# Altium integrated library TI_Logic_Little_Logic.IntLib: 1164 symbols (part 32 of 35)
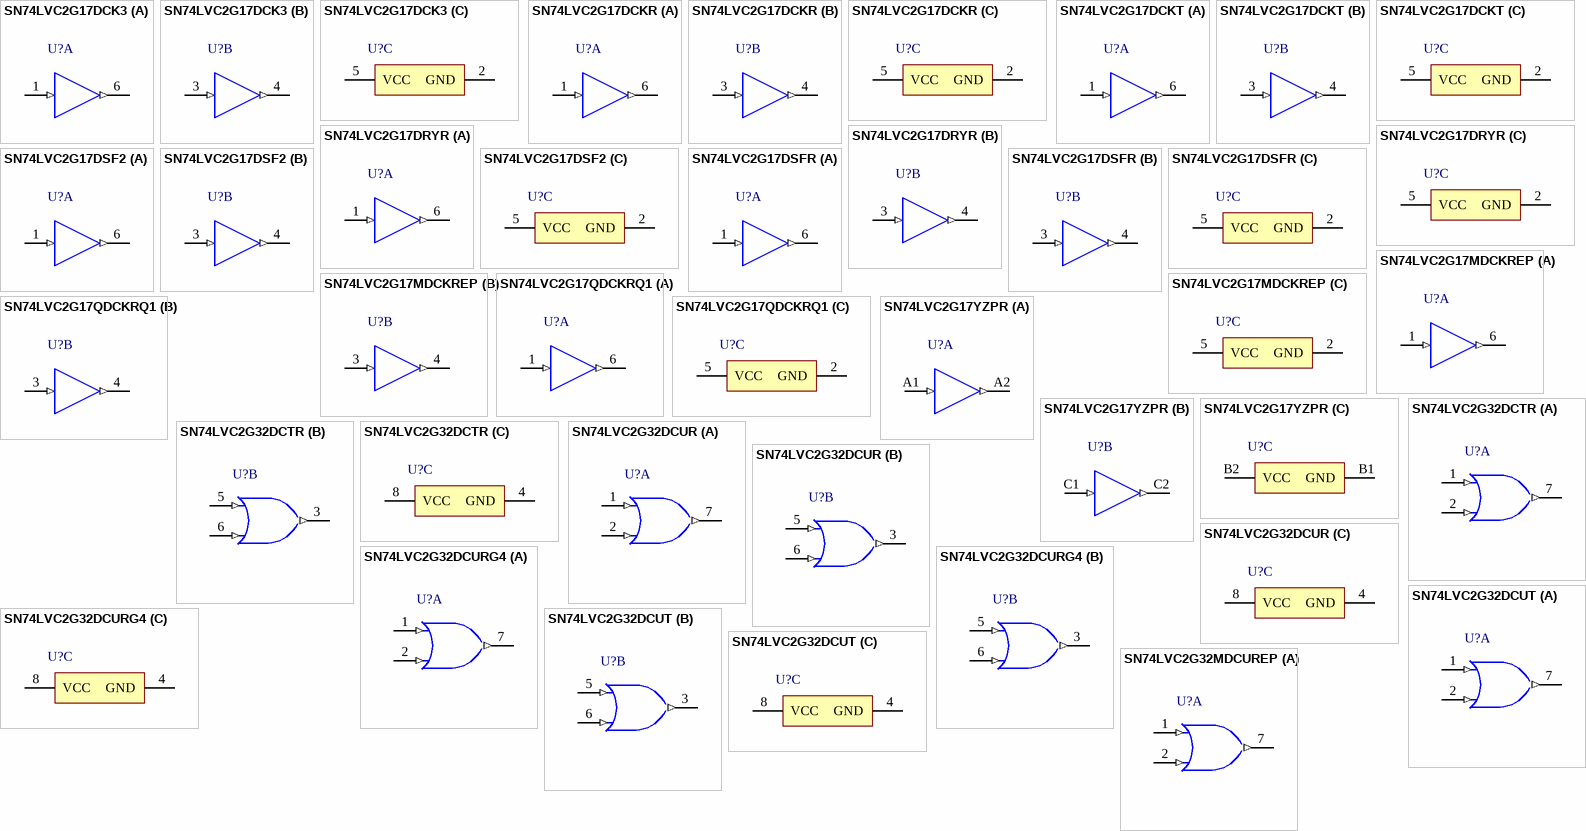
[diagram p91: symbols SN74LVC2G17DCK3 to SN74LVC2G32MDCUREP]

## SN74LVC2G32DCURG4
designator U?
Dual 2-Input Positive-OR Gate, DCU0008A, LARGE T&R; Generic Part Number: SN74LVC2G32; Manufacturer: Texas Instruments; PartNumber: SN74LVC2G32DCURG4; VCC(Min)(V): 1.65; VCC(Max)(V): 5.5; Output Type: CMOS; ICC @ Nom Voltage(Max)(mA): 0.01; Input Type: CMOS/TTL; Bits(#): 2; F @ Nom Voltage(Max)(Mhz): 150; Rating: Catalog; Technology Family: LVC; Voltage(Nom)(V): 1.8,2.5,3.3,5; Schmitt Trigger: No; Output Drive (IOL/IOH)(Max)(mA): 32/-32; tpd @ Nom Voltage(Max)(ns): 8,4.4,3.8,3.2; Logic: True; Gate Type: OR; Sub-Family: OR Gate; DatasheetVersion: SCES201M; PackageReference: DCU0008A; Supplier 1: Mouser; Supplier Part Number 1: 595-74LVC2G32DCURG4; Supplier 2: Digi-Key; Supplier Part Number 2: SN74LVC2G32DCURG4-ND; Operating Temperature Range(C): -40 to 125,-40 to 85; 3-State Output: No; ComponentLink1Description: Manufacturer URL; ComponentLink1URL: http://www.ti.com/; ComponentLink2Description: Datasheet; ComponentLink2URL: http://www.ti.com/lit/ds/symlink/sn74lvc2g32.pdf
footprint DCU0008A_N (SOP, 8-Leads, Body 2.4x2.1mm, Pitch 0.5mm, IPC Medium Density)
footprint DCU0008A_M (SOP, 8-Leads, Body 2.4x2.1mm, Pitch 0.5mm, IPC Low Density)
footprint DCU0008A_L (SOP, 8-Leads, Body 2.4x2.1mm, Pitch 0.5mm, IPC High Density)
part A pins: 1 1A (in), 2 1B (in), 7 1Y (out)
part B pins: 3 2Y (out), 5 2A (in), 6 2B (in)
part C pins: 4 GND (power), 8 VCC (power)

## SN74LVC2G32DCUT
designator U?
Dual 2-Input Positive-OR Gate, DCU0008A, SMALL T&R; Generic Part Number: SN74LVC2G32; Manufacturer: Texas Instruments; PartNumber: SN74LVC2G32DCUT; VCC(Min)(V): 1.65; VCC(Max)(V): 5.5; Output Type: CMOS; ICC @ Nom Voltage(Max)(mA): 0.01; Input Type: CMOS/TTL; Bits(#): 2; F @ Nom Voltage(Max)(Mhz): 150; Rating: Catalog; Technology Family: LVC; Voltage(Nom)(V): 1.8,2.5,3.3,5; Schmitt Trigger: No; Output Drive (IOL/IOH)(Max)(mA): 32/-32; tpd @ Nom Voltage(Max)(ns): 8,4.4,3.8,3.2; Logic: True; Gate Type: OR; Sub-Family: OR Gate; DatasheetVersion: SCES201M; PackageReference: DCU0008A; Supplier 1: Mouser; Supplier Part Number 1: 595-SN74LVC2G32DCUT; Supplier 2: Digi-Key; Supplier Part Number 2: 296-32324-2-ND; Supplier 3: Digi-Key; Supplier Part Number 3: 296-32324-1-ND; Supplier 4: Digi-Key; Supplier Part Number 4: 296-32324-6-ND; Operating Temperature Range(C): -40 to 125,-40 to 85; 3-State Output: No; ComponentLink1Description: Manufacturer URL; ComponentLink1URL: http://www.ti.com/; ComponentLink2Description: Datasheet; ComponentLink2URL: http://www.ti.com/lit/ds/symlink/sn74lvc2g32.pdf
footprint DCU0008A_N (SOP, 8-Leads, Body 2.4x2.1mm, Pitch 0.5mm, IPC Medium Density)
footprint DCU0008A_M (SOP, 8-Leads, Body 2.4x2.1mm, Pitch 0.5mm, IPC Low Density)
footprint DCU0008A_L (SOP, 8-Leads, Body 2.4x2.1mm, Pitch 0.5mm, IPC High Density)
part A pins: 1 1A (in), 2 1B (in), 7 1Y (out)
part B pins: 3 2Y (out), 5 2A (in), 6 2B (in)
part C pins: 4 GND (power), 8 VCC (power)

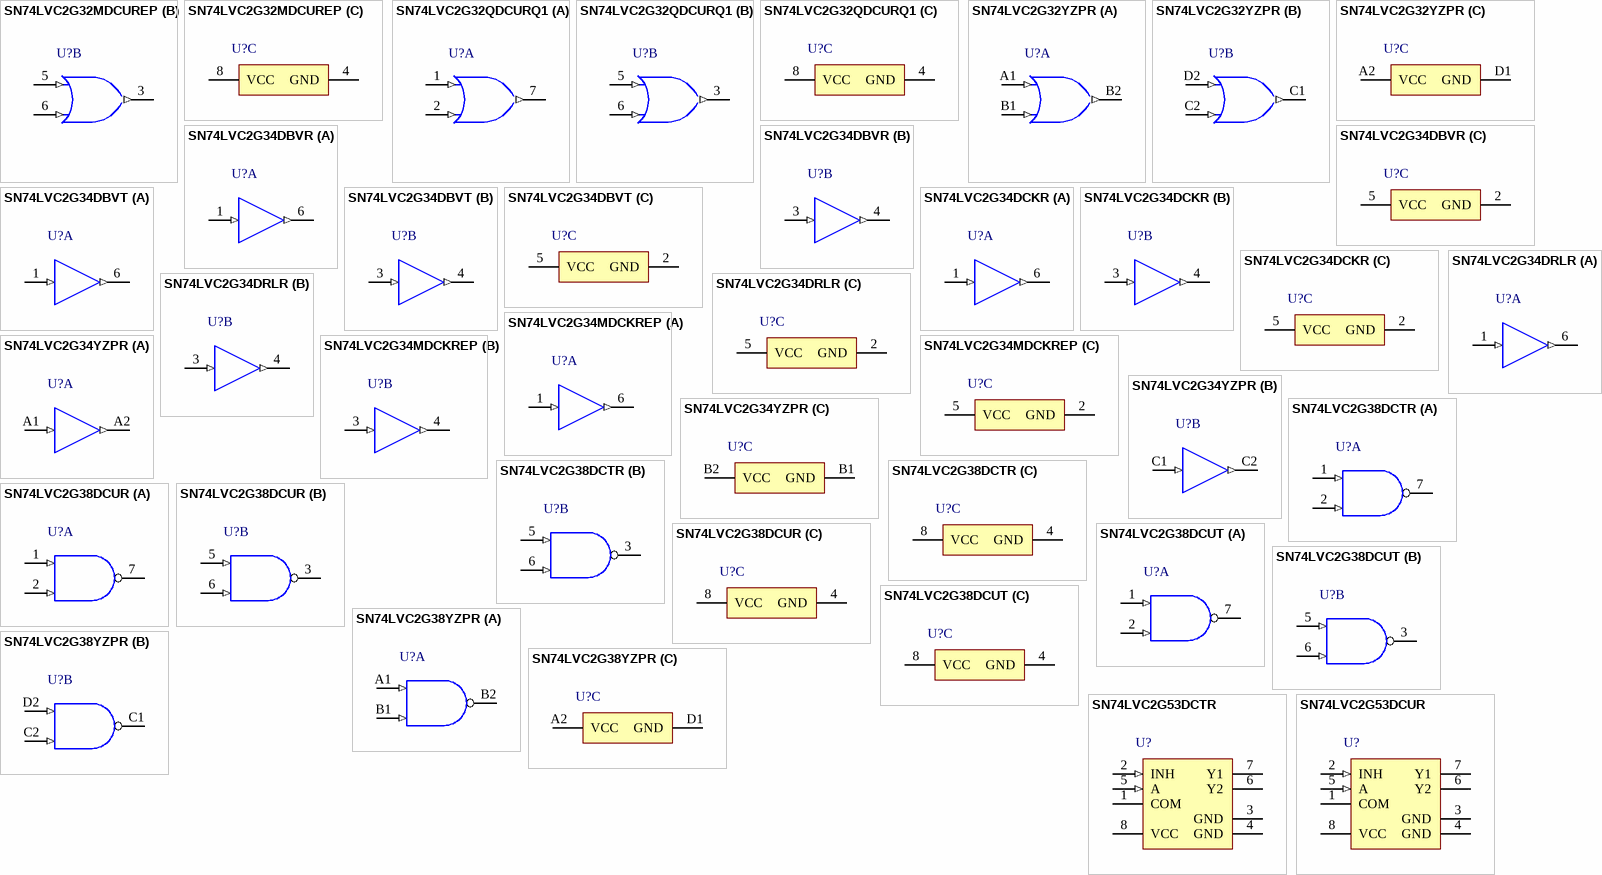
[diagram p52: symbols SN74LVC2G32MDCUREP to SN74LVC2G53DCUR]

## SN74LVC2G32MDCUREP
designator U?
Enhanced Product Dual 2-Input Positive-Or Gate, DCU0008A, LARGE T&R; Generic Part Number: SN74LVC2G32-EP; Manufacturer: Texas Instruments; PartNumber: SN74LVC2G32MDCUREP; VCC(Min)(V): 1.65; VCC(Max)(V): 5.5; Output Type: CMOS; ICC @ Nom Voltage(Max)(mA): 0.01; Input Type: CMOS/TTL; Bits(#): 2; F @ Nom Voltage(Max)(Mhz): 150; Rating: HiRel Enhanced Product; Technology Family: LVC; Voltage(Nom)(V): 1.8,2.5,3.3,5; Schmitt Trigger: No; Output Drive (IOL/IOH)(Max)(mA): 32/-32; tpd @ Nom Voltage(Max)(ns): 11,7.5,5.8,4.7; Logic: True; Sub-Family: OR Gate; DatasheetVersion: SCES543A; PackageReference: DCU0008A; Supplier 1: Mouser; Supplier Part Number 1: 595-SN74L2G32MDCUREP; Supplier 2: Digi-Key; Supplier Part Number 2: 296-22359-2-ND; Supplier 3: Digi-Key; Supplier Part Number 3: 296-22359-1-ND; Supplier 4: Digi-Key; Supplier Part Number 4: 296-22359-6-ND; Operating Temperature Range(C): -40 to 85,-55 to 125; 3-State Output: No; ComponentLink1Description: Manufacturer URL; ComponentLink1URL: http://www.ti.com/; ComponentLink2Description: Datasheet; ComponentLink2URL: http://www.ti.com/lit/ds/symlink/sn74lvc2g32-ep.pdf
footprint DCU0008A_N (SOP, 8-Leads, Body 2.4x2.1mm, Pitch 0.5mm, IPC Medium Density)
footprint DCU0008A_M (SOP, 8-Leads, Body 2.4x2.1mm, Pitch 0.5mm, IPC Low Density)
footprint DCU0008A_L (SOP, 8-Leads, Body 2.4x2.1mm, Pitch 0.5mm, IPC High Density)
part A pins: 1 1A (in), 2 1B (in), 7 1Y (out)
part B pins: 3 2Y (out), 5 2A (in), 6 2B (in)
part C pins: 4 GND (power), 8 VCC (power)

## SN74LVC2G32QDCURQ1
designator U?
Automotive Catalog, Dual 2-Input Positive-OR Gate, DCU0008A, LARGE T&R; Generic Part Number: SN74LVC2G32-Q1; Manufacturer: Texas Instruments; PartNumber: SN74LVC2G32QDCURQ1; VCC(Min)(V): 1.65; VCC(Max)(V): 5.5; Output Type: CMOS; ICC @ Nom Voltage(Max)(mA): 0.01; Input Type: CMOS/TTL; Bits(#): 2; F @ Nom Voltage(Max)(Mhz): 150; Technology Family: LVC; Voltage(Nom)(V): 1.8,2.5,3.3,5; Schmitt Trigger: No; Output Drive (IOL/IOH)(Max)(mA): 32/-32; tpd @ Nom Voltage(Max)(ns): 11,7.5,5.8,4.7; Logic: True; Sub-Family: OR Gate; DatasheetVersion: SCES842; PackageReference: DCU0008A; Supplier 1: Mouser; Supplier Part Number 1: 595-74LVC2G32QDCURQ1; Supplier 2: Digi-Key; Supplier Part Number 2: 296-35063-2-ND; Supplier 3: Digi-Key; Supplier Part Number 3: 296-35063-1-ND; Supplier 4: Digi-Key; Supplier Part Number 4: 296-35063-6-ND; Operating Temperature Range(C): -40 to 125; Rating: Automotive; 3-State Output: No; ComponentLink1Description: Manufacturer URL; ComponentLink1URL: http://www.ti.com/; ComponentLink2Description: Datasheet; ComponentLink2URL: http://www.ti.com/lit/ds/symlink/sn74lvc2g32-q1.pdf
footprint DCU0008A_N (SOP, 8-Leads, Body 2.4x2.1mm, Pitch 0.5mm, IPC Medium Density)
footprint DCU0008A_M (SOP, 8-Leads, Body 2.4x2.1mm, Pitch 0.5mm, IPC Low Density)
footprint DCU0008A_L (SOP, 8-Leads, Body 2.4x2.1mm, Pitch 0.5mm, IPC High Density)
part A pins: 1 1A (in), 2 1B (in), 7 1Y (out)
part B pins: 3 2Y (out), 5 2A (in), 6 2B (in)
part C pins: 4 GND (power), 8 VCC (power)

## SN74LVC2G32YZPR
designator U?
Dual 2-Input Positive-OR Gate, YZP0008ADAD, LARGE T&R; Generic Part Number: SN74LVC2G32; Manufacturer: Texas Instruments; PartNumber: SN74LVC2G32YZPR; VCC(Min)(V): 1.65; VCC(Max)(V): 5.5; Output Type: CMOS; ICC @ Nom Voltage(Max)(mA): 0.01; Input Type: CMOS/TTL; Bits(#): 2; F @ Nom Voltage(Max)(Mhz): 150; Rating: Catalog; Technology Family: LVC; Voltage(Nom)(V): 1.8,2.5,3.3,5; Schmitt Trigger: No; Output Drive (IOL/IOH)(Max)(mA): 32/-32; tpd @ Nom Voltage(Max)(ns): 8,4.4,3.8,3.2; Logic: True; Gate Type: OR; Sub-Family: OR Gate; DatasheetVersion: SCES201M; PackageReference: YZP0008ADAD; Supplier 1: Mouser; Supplier Part Number 1: 595-SN74LVC2G32YZPR; Supplier 2: Digi-Key; Supplier Part Number 2: 296-15350-2-ND; Supplier 3: Digi-Key; Supplier Part Number 3: 296-15350-1-ND; Operating Temperature Range(C): -40 to 125,-40 to 85; 3-State Output: No; ComponentLink1Description: Manufacturer URL; ComponentLink1URL: http://www.ti.com/; ComponentLink2Description: Datasheet; ComponentLink2URL: http://www.ti.com/lit/ds/symlink/sn74lvc2g32.pdf
footprint YZP0008ADAD (BGA, 8-Balls, Body 1.89x0.89mm, Pitch 0.5mm)
part A pins: A1 1A (in), B1 1B (in), B2 1Y (out)
part B pins: C1 2Y (out), C2 2B (in), D2 2A (in)
part C pins: A2 VCC (power), D1 GND (power)

## SN74LVC2G34DBVR
designator U?
Dual Buffer Gate, DBV0006A, LARGE T&R; Generic Part Number: SN74LVC2G34; Manufacturer: Texas Instruments; PartNumber: SN74LVC2G34DBVR; VCC(Min)(V): 1.65; VCC(Max)(V): 5.5; Output Type: CMOS; ICC @ Nom Voltage(Max)(mA): 0.01; Input Type: CMOS/TTL; Bits(#): 2; F @ Nom Voltage(Max)(Mhz): 150; Rating: Catalog; Technology Family: LVC; Voltage(Nom)(V): 1.8,2.5,3.3,5; Schmitt Trigger: No; Output Drive (IOL/IOH)(Max)(mA): 32/-32; tpd @ Nom Voltage(Max)(ns): 8.6,4.4,4.1,3.2; Logic: True; Sub-Family: Non-Inverting Buffer/Driver; DatasheetVersion: SCES359I; PackageReference: DBV0006A; Supplier 1: Mouser; Supplier Part Number 1: 595-SN74LVC2G34DBVR; Supplier 2: Digi-Key; Supplier Part Number 2: 296-13496-2-ND; Supplier 3: Digi-Key; Supplier Part Number 3: 296-13496-1-ND; Supplier 4: Digi-Key; Supplier Part Number 4: 296-13496-6-ND; Operating Temperature Range(C): -40 to 125,-40 to 85; 3-State Output: No; ComponentLink1Description: Manufacturer URL; ComponentLink1URL: http://www.ti.com/; ComponentLink2Description: Datasheet; ComponentLink2URL: http://www.ti.com/lit/ds/symlink/sn74lvc2g34.pdf
footprint DBV0006A_N (SOT23, 6-Leads, Body 3.05x1.75mm, Pitch 0.95mm, IPC Medium Density)
footprint DBV0006A_M (SOT23, 6-Leads, Body 3.05x1.75mm, Pitch 0.95mm, IPC Low Density)
footprint DBV0006A_L (SOT23, 6-Leads, Body 3.05x1.75mm, Pitch 0.95mm, IPC High Density)
part A pins: 1 1A (in), 6 1Y (out)
part B pins: 3 2A (in), 4 2Y (out)
part C pins: 2 GND (power), 5 VCC (power)

## SN74LVC2G34DBVT
designator U?
Dual Buffer Gate, DBV0006A, SMALL T&R; Generic Part Number: SN74LVC2G34; Manufacturer: Texas Instruments; PartNumber: SN74LVC2G34DBVT; VCC(Min)(V): 1.65; VCC(Max)(V): 5.5; Output Type: CMOS; ICC @ Nom Voltage(Max)(mA): 0.01; Input Type: CMOS/TTL; Bits(#): 2; F @ Nom Voltage(Max)(Mhz): 150; Rating: Catalog; Technology Family: LVC; Voltage(Nom)(V): 1.8,2.5,3.3,5; Schmitt Trigger: No; Output Drive (IOL/IOH)(Max)(mA): 32/-32; tpd @ Nom Voltage(Max)(ns): 8.6,4.4,4.1,3.2; Logic: True; Sub-Family: Non-Inverting Buffer/Driver; DatasheetVersion: SCES359I; PackageReference: DBV0006A; Supplier 1: Mouser; Supplier Part Number 1: 595-SN74LVC2G34DBVT; Supplier 2: Digi-Key; Supplier Part Number 2: 296-32325-2-ND; Supplier 3: Digi-Key; Supplier Part Number 3: 296-32325-1-ND; Supplier 4: Digi-Key; Supplier Part Number 4: 296-32325-6-ND; Operating Temperature Range(C): -40 to 125,-40 to 85; 3-State Output: No; ComponentLink1Description: Manufacturer URL; ComponentLink1URL: http://www.ti.com/; ComponentLink2Description: Datasheet; ComponentLink2URL: http://www.ti.com/lit/ds/symlink/sn74lvc2g34.pdf
footprint DBV0006A_N (SOT23, 6-Leads, Body 3.05x1.75mm, Pitch 0.95mm, IPC Medium Density)
footprint DBV0006A_M (SOT23, 6-Leads, Body 3.05x1.75mm, Pitch 0.95mm, IPC Low Density)
footprint DBV0006A_L (SOT23, 6-Leads, Body 3.05x1.75mm, Pitch 0.95mm, IPC High Density)
part A pins: 1 1A (in), 6 1Y (out)
part B pins: 3 2A (in), 4 2Y (out)
part C pins: 2 GND (power), 5 VCC (power)

## SN74LVC2G34DCKR
designator U?
Dual Buffer Gate, DCK0006A, LARGE T&R; Generic Part Number: SN74LVC2G34; Manufacturer: Texas Instruments; PartNumber: SN74LVC2G34DCKR; VCC(Min)(V): 1.65; VCC(Max)(V): 5.5; Output Type: CMOS; ICC @ Nom Voltage(Max)(mA): 0.01; Input Type: CMOS/TTL; Bits(#): 2; F @ Nom Voltage(Max)(Mhz): 150; Rating: Catalog; Technology Family: LVC; Voltage(Nom)(V): 1.8,2.5,3.3,5; Schmitt Trigger: No; Output Drive (IOL/IOH)(Max)(mA): 32/-32; tpd @ Nom Voltage(Max)(ns): 8.6,4.4,4.1,3.2; Logic: True; Sub-Family: Non-Inverting Buffer/Driver; DatasheetVersion: SCES359I; PackageReference: DCK0006A; Supplier 1: Mouser; Supplier Part Number 1: 595-SN74LVC2G34DCKR; Supplier 2: Digi-Key; Supplier Part Number 2: 296-13497-2-ND; Supplier 3: Digi-Key; Supplier Part Number 3: 296-13497-1-ND; Supplier 4: Digi-Key; Supplier Part Number 4: 296-13497-6-ND; Operating Temperature Range(C): -40 to 125,-40 to 85; 3-State Output: No; ComponentLink1Description: Manufacturer URL; ComponentLink1URL: http://www.ti.com/; ComponentLink2Description: Datasheet; ComponentLink2URL: http://www.ti.com/lit/ds/symlink/sn74lvc2g34.pdf
footprint DCK0006A_N (SOT23, 6-Leads, Body 2.15x1.4mm, Pitch 0.65mm, IPC Medium Density)
footprint DCK0006A_M (SOT23, 6-Leads, Body 2.15x1.4mm, Pitch 0.65mm, IPC Low Density)
footprint DCK0006A_L (SOT23, 6-Leads, Body 2.15x1.4mm, Pitch 0.65mm, IPC High Density)
part A pins: 1 1A (in), 6 1Y (out)
part B pins: 3 2A (in), 4 2Y (out)
part C pins: 2 GND (power), 5 VCC (power)

## SN74LVC2G34DRLR
designator U?
Dual Buffer Gate, DRL0006A, LARGE T&R; Generic Part Number: SN74LVC2G34; Manufacturer: Texas Instruments; PartNumber: SN74LVC2G34DRLR; VCC(Min)(V): 1.65; VCC(Max)(V): 5.5; Output Type: CMOS; ICC @ Nom Voltage(Max)(mA): 0.01; Input Type: CMOS/TTL; Bits(#): 2; F @ Nom Voltage(Max)(Mhz): 150; Rating: Catalog; Technology Family: LVC; Voltage(Nom)(V): 1.8,2.5,3.3,5; Schmitt Trigger: No; Output Drive (IOL/IOH)(Max)(mA): 32/-32; tpd @ Nom Voltage(Max)(ns): 8.6,4.4,4.1,3.2; Logic: True; Sub-Family: Non-Inverting Buffer/Driver; DatasheetVersion: SCES359I; PackageReference: DRL0006A; Supplier 1: Mouser; Supplier Part Number 1: 595-SN74LVC2G34DRLR; Supplier 2: Digi-Key; Supplier Part Number 2: 296-18020-2-ND; Supplier 3: Digi-Key; Supplier Part Number 3: 296-18020-1-ND; Supplier 4: Digi-Key; Supplier Part Number 4: 296-18020-6-ND; Operating Temperature Range(C): -40 to 125,-40 to 85; 3-State Output: No; ComponentLink1Description: Manufacturer URL; ComponentLink1URL: http://www.ti.com/; ComponentLink2Description: Datasheet; ComponentLink2URL: http://www.ti.com/lit/ds/symlink/sn74lvc2g34.pdf
footprint DRL0006A_N (SOT23, 6-Leads, Body 1.7x1.3mm, Pitch 0.5mm, IPC Medium Density)
footprint DRL0006A_M (SOT23, 6-Leads, Body 1.7x1.3mm, Pitch 0.5mm, IPC Low Density)
footprint DRL0006A_L (SOT23, 6-Leads, Body 1.7x1.3mm, Pitch 0.5mm, IPC High Density)
part A pins: 1 1A (in), 6 1Y (out)
part B pins: 3 2A (in), 4 2Y (out)
part C pins: 2 GND (power), 5 VCC (power)

## SN74LVC2G34MDCKREP
designator U?
Enhanced Product Dual Buffer Gate, DCK0006A, LARGE T&R; Generic Part Number: SN74LVC2G34-EP; Manufacturer: Texas Instruments; PartNumber: SN74LVC2G34MDCKREP; VCC(Min)(V): 1.65; VCC(Max)(V): 5.5; Output Type: CMOS; ICC @ Nom Voltage(Max)(mA): 0.01; Input Type: CMOS/TTL; Bits(#): 2; F @ Nom Voltage(Max)(Mhz): 150; Rating: HiRel Enhanced Product; Technology Family: LVC; Voltage(Nom)(V): 1.8,2.5,3.3,5; Schmitt Trigger: No; Output Drive (IOL/IOH)(Max)(mA): 32/-32; tpd @ Nom Voltage(Max)(ns): 11.5,7.1,6.1,5.2; Logic: True; Sub-Family: Non-Inverting Buffer/Driver; DatasheetVersion: SCES671; PackageReference: DCK0006A; Supplier 1: Mouser; Supplier Part Number 1: 595-SN74L2G34MDCKREP; Supplier 2: Digi-Key; Supplier Part Number 2: 296-22360-2-ND; Supplier 3: Digi-Key; Supplier Part Number 3: 296-22360-1-ND; Supplier 4: Digi-Key; Supplier Part Number 4: 296-22360-6-ND; Operating Temperature Range(C): -55 to 125; 3-State Output: No; ComponentLink1Description: Manufacturer URL; ComponentLink1URL: http://www.ti.com/; ComponentLink2Description: Datasheet; ComponentLink2URL: http://www.ti.com/lit/ds/symlink/sn74lvc2g34-ep.pdf
footprint DCK0006A_N (SOT23, 6-Leads, Body 2.15x1.4mm, Pitch 0.65mm, IPC Medium Density)
footprint DCK0006A_M (SOT23, 6-Leads, Body 2.15x1.4mm, Pitch 0.65mm, IPC Low Density)
footprint DCK0006A_L (SOT23, 6-Leads, Body 2.15x1.4mm, Pitch 0.65mm, IPC High Density)
part A pins: 1 1A (in), 6 1Y (out)
part B pins: 3 2A (in), 4 2Y (out)
part C pins: 2 GND (power), 5 VCC (power)

## SN74LVC2G34YZPR
designator U?
Dual Buffer Gate, YZP0006ADAD, LARGE T&R; Generic Part Number: SN74LVC2G34; Manufacturer: Texas Instruments; PartNumber: SN74LVC2G34YZPR; VCC(Min)(V): 1.65; VCC(Max)(V): 5.5; Output Type: CMOS; ICC @ Nom Voltage(Max)(mA): 0.01; Input Type: CMOS/TTL; Bits(#): 2; F @ Nom Voltage(Max)(Mhz): 150; Rating: Catalog; Technology Family: LVC; Voltage(Nom)(V): 1.8,2.5,3.3,5; Schmitt Trigger: No; Output Drive (IOL/IOH)(Max)(mA): 32/-32; tpd @ Nom Voltage(Max)(ns): 8.6,4.4,4.1,3.2; Logic: True; Sub-Family: Non-Inverting Buffer/Driver; DatasheetVersion: SCES359I; PackageReference: YZP0006ADAD; Supplier 1: Mouser; Supplier Part Number 1: 595-SN74LVC2G34YZPR; Supplier 2: Digi-Key; Supplier Part Number 2: 296-23781-2-ND; Supplier 3: Digi-Key; Supplier Part Number 3: 296-23781-1-ND; Supplier 4: Digi-Key; Supplier Part Number 4: 296-23781-6-ND; Operating Temperature Range(C): -40 to 125,-40 to 85; 3-State Output: No; ComponentLink1Description: Manufacturer URL; ComponentLink1URL: http://www.ti.com/; ComponentLink2Description: Datasheet; ComponentLink2URL: http://www.ti.com/lit/ds/symlink/sn74lvc2g34.pdf
footprint YZP0006ADAD (BGA, 6-Balls, Body 1.39x0.89mm, Pitch 0.5mm)
part A pins: A1 1A (in), A2 1Y (out)
part B pins: C1 2A (in), C2 2Y (out)
part C pins: B1 GND (power), B2 VCC (power)

## SN74LVC2G38DCTR
designator U?
Dual 2-Input NAND Gate with Open Drain Output, DCT0008A, LARGE T&R; Generic Part Number: SN74LVC2G38; Manufacturer: Texas Instruments; PartNumber: SN74LVC2G38DCTR; VCC(Min)(V): 1.65; VCC(Max)(V): 5.5; Output Type: CMOS; ICC @ Nom Voltage(Max)(mA): 0.01; Input Type: CMOS/TTL; Bits(#): 2; F @ Nom Voltage(Max)(Mhz): 150; Rating: Catalog; Technology Family: LVC; Voltage(Nom)(V): 1.8,2.5,3.3,5; Schmitt Trigger: No; Output Drive (IOL/IOH)(Max)(mA): 32/-32; tpd @ Nom Voltage(Max)(ns): 10,6,4.5,3.9; Logic: True; DatasheetVersion: SCES554D; PackageReference: DCT0008A; Supplier 1: Mouser; Supplier Part Number 1: 595-SN74LVC2G38DCTR; Supplier 2: Digi-Key; Supplier Part Number 2: 296-17010-2-ND; Supplier 3: Digi-Key; Supplier Part Number 3: 296-17010-1-ND; Supplier 4: Digi-Key; Supplier Part Number 4: 296-17010-6-ND; Operating Temperature Range(C): -40 to 125,-40 to 85; Gate Type: NAND; Sub-Family: NAND Gate; 3-State Output: No; ComponentLink1Description: Manufacturer URL; ComponentLink1URL: http://www.ti.com/; ComponentLink2Description: Datasheet; ComponentLink2URL: http://www.ti.com/lit/ds/symlink/sn74lvc2g38.pdf
footprint DCT0008A_N (SOP, 8-Leads, Body 2.9x3.2mm, Pitch 0.65mm, IPC Medium Density)
footprint DCT0008A_M (SOP, 8-Leads, Body 2.9x3.2mm, Pitch 0.65mm, IPC Low Density)
footprint DCT0008A_L (SOP, 8-Leads, Body 2.9x3.2mm, Pitch 0.65mm, IPC High Density)
part A pins: 1 1A (in), 2 1B (in), 7 1Y (oc)
part B pins: 3 2Y (oc), 5 2A (in), 6 2B (in)
part C pins: 4 GND (power), 8 VCC (power)

## SN74LVC2G38DCUR
designator U?
Dual 2-Input NAND Gate with Open Drain Output, DCU0008A, LARGE T&R; Generic Part Number: SN74LVC2G38; Manufacturer: Texas Instruments; PartNumber: SN74LVC2G38DCUR; VCC(Min)(V): 1.65; VCC(Max)(V): 5.5; Output Type: CMOS; ICC @ Nom Voltage(Max)(mA): 0.01; Input Type: CMOS/TTL; Bits(#): 2; F @ Nom Voltage(Max)(Mhz): 150; Rating: Catalog; Technology Family: LVC; Voltage(Nom)(V): 1.8,2.5,3.3,5; Schmitt Trigger: No; Output Drive (IOL/IOH)(Max)(mA): 32/-32; tpd @ Nom Voltage(Max)(ns): 10,6,4.5,3.9; Logic: True; DatasheetVersion: SCES554D; PackageReference: DCU0008A; Supplier 1: Mouser; Supplier Part Number 1: 595-SN74LVC2G38DCUR; Supplier 2: Digi-Key; Supplier Part Number 2: 296-18808-2-ND; Supplier 3: Digi-Key; Supplier Part Number 3: 296-18808-1-ND; Supplier 4: Digi-Key; Supplier Part Number 4: 296-18808-6-ND; Operating Temperature Range(C): -40 to 125,-40 to 85; Gate Type: NAND; Sub-Family: NAND Gate; 3-State Output: No; ComponentLink1Description: Manufacturer URL; ComponentLink1URL: http://www.ti.com/; ComponentLink2Description: Datasheet; ComponentLink2URL: http://www.ti.com/lit/ds/symlink/sn74lvc2g38.pdf
footprint DCU0008A_N (SOP, 8-Leads, Body 2.4x2.1mm, Pitch 0.5mm, IPC Medium Density)
footprint DCU0008A_M (SOP, 8-Leads, Body 2.4x2.1mm, Pitch 0.5mm, IPC Low Density)
footprint DCU0008A_L (SOP, 8-Leads, Body 2.4x2.1mm, Pitch 0.5mm, IPC High Density)
part A pins: 1 1A (in), 2 1B (in), 7 1Y (oc)
part B pins: 3 2Y (oc), 5 2A (in), 6 2B (in)
part C pins: 4 GND (power), 8 VCC (power)

## SN74LVC2G38DCUT
designator U?
Dual 2-Input NAND Gate with Open Drain Output, DCU0008A, SMALL T&R; Generic Part Number: SN74LVC2G38; Manufacturer: Texas Instruments; PartNumber: SN74LVC2G38DCUT; VCC(Min)(V): 1.65; VCC(Max)(V): 5.5; Output Type: CMOS; ICC @ Nom Voltage(Max)(mA): 0.01; Input Type: CMOS/TTL; Bits(#): 2; F @ Nom Voltage(Max)(Mhz): 150; Rating: Catalog; Technology Family: LVC; Voltage(Nom)(V): 1.8,2.5,3.3,5; Schmitt Trigger: No; Output Drive (IOL/IOH)(Max)(mA): 32/-32; tpd @ Nom Voltage(Max)(ns): 10,6,4.5,3.9; Logic: True; DatasheetVersion: SCES554D; PackageReference: DCU0008A; Supplier 1: Mouser; Supplier Part Number 1: 595-SN74LVC2G38DCUT; Supplier 2: Digi-Key; Supplier Part Number 2: SN74LVC2G38DCUT-ND; Operating Temperature Range(C): -40 to 125,-40 to 85; Gate Type: NAND; Sub-Family: NAND Gate; 3-State Output: No; ComponentLink1Description: Manufacturer URL; ComponentLink1URL: http://www.ti.com/; ComponentLink2Description: Datasheet; ComponentLink2URL: http://www.ti.com/lit/ds/symlink/sn74lvc2g38.pdf
footprint DCU0008A_N (SOP, 8-Leads, Body 2.4x2.1mm, Pitch 0.5mm, IPC Medium Density)
footprint DCU0008A_M (SOP, 8-Leads, Body 2.4x2.1mm, Pitch 0.5mm, IPC Low Density)
footprint DCU0008A_L (SOP, 8-Leads, Body 2.4x2.1mm, Pitch 0.5mm, IPC High Density)
part A pins: 1 1A (in), 2 1B (in), 7 1Y (oc)
part B pins: 3 2Y (oc), 5 2A (in), 6 2B (in)
part C pins: 4 GND (power), 8 VCC (power)

## SN74LVC2G38YZPR
designator U?
Dual 2-Input NAND Gate with Open Drain Output, YZP0008ADAD, LARGE T&R; Generic Part Number: SN74LVC2G38; Manufacturer: Texas Instruments; PartNumber: SN74LVC2G38YZPR; VCC(Min)(V): 1.65; VCC(Max)(V): 5.5; Output Type: CMOS; ICC @ Nom Voltage(Max)(mA): 0.01; Input Type: CMOS/TTL; Bits(#): 2; F @ Nom Voltage(Max)(Mhz): 150; Rating: Catalog; Technology Family: LVC; Voltage(Nom)(V): 1.8,2.5,3.3,5; Schmitt Trigger: No; Output Drive (IOL/IOH)(Max)(mA): 32/-32; tpd @ Nom Voltage(Max)(ns): 10,6,4.5,3.9; Logic: True; DatasheetVersion: SCES554D; PackageReference: YZP0008ADAD; Supplier 1: Mouser; Supplier Part Number 1: 595-SN74LVC2G38YZPR; Supplier 2: Digi-Key; Supplier Part Number 2: 296-18809-2-ND; Supplier 3: Digi-Key; Supplier Part Number 3: 296-18809-1-ND; Operating Temperature Range(C): -40 to 125,-40 to 85; Gate Type: NAND; Sub-Family: NAND Gate; 3-State Output: No; ComponentLink1Description: Manufacturer URL; ComponentLink1URL: http://www.ti.com/; ComponentLink2Description: Datasheet; ComponentLink2URL: http://www.ti.com/lit/ds/symlink/sn74lvc2g38.pdf
footprint YZP0008ADAD (BGA, 8-Balls, Body 1.89x0.89mm, Pitch 0.5mm)
part A pins: A1 1A (in), B1 1B (in), B2 1Y (oc)
part B pins: C1 2Y (oc), C2 2B (in), D2 2A (in)
part C pins: A2 VCC (power), D1 GND (power)

## SN74LVC2G53DCTR
designator U?
Single Pole, Double-Throw (SPDT) Analog Switch or 2:1 Analog Multiplexer/Demultiplexer, DCT0008A, LARGE T&R; Generic Part Number: SN74LVC2G53; Manufacturer: Texas Instruments; PartNumber: SN74LVC2G53DCTR; VCC(Min)(V): 1.65; VCC(Max)(V): 5.5; Output Type: CMOS; Logic: True; ICC @ Nom Voltage(Max)(mA): 0.01; Bits(#): 2; F @ Nom Voltage(Max)(Mhz): 150; Channels(#): 1; Rating: Catalog; Technology Family: LVC; Voltage(Nom)(V): 1.8,2.5,3.3,5; Schmitt Trigger: No; Output Drive (IOL/IOH)(Max)(mA): 32/-32; Mux Configuration: 1：2; tpd @ Nom Voltage(Max)(ns): 2,1.2,0.8,0.6; DatasheetVersion: SCES324N; PackageReference: DCT0008A; Supplier 1: Mouser; Supplier Part Number 1: 595-SN74LVC2G53DCTR; Supplier 2: Digi-Key; Supplier Part Number 2: 296-13269-2-ND; Supplier 3: Digi-Key; Supplier Part Number 3: 296-13269-1-ND; Supplier 4: Digi-Key; Supplier Part Number 4: 296-13269-6-ND; Input Type: CMOS; Operating Temperature Range(C): -40 to 85; Sub-Family: Analog Switch; 3-State Output: No; Switch Configuration: SPDT; ComponentLink1Description: Manufacturer URL; ComponentLink1URL: http://www.ti.com/; ComponentLink2Description: Datasheet; ComponentLink2URL: http://www.ti.com/lit/ds/symlink/sn74lvc2g53.pdf
footprint DCT0008A_N (SOP, 8-Leads, Body 2.9x3.2mm, Pitch 0.65mm, IPC Medium Density)
footprint DCT0008A_M (SOP, 8-Leads, Body 2.9x3.2mm, Pitch 0.65mm, IPC Low Density)
footprint DCT0008A_L (SOP, 8-Leads, Body 2.9x3.2mm, Pitch 0.65mm, IPC High Density)
pins: 1 COM, 2 INH (in), 3 GND (power), 4 GND (power), 5 A (in), 6 Y2, 7 Y1, 8 VCC (power)

## SN74LVC2G53DCUR
designator U?
Single Pole, Double-Throw (SPDT) Analog Switch or 2:1 Analog Multiplexer/Demultiplexer, DCU0008A, LARGE T&R; Generic Part Number: SN74LVC2G53; Manufacturer: Texas Instruments; PartNumber: SN74LVC2G53DCUR; VCC(Min)(V): 1.65; VCC(Max)(V): 5.5; Output Type: CMOS; Logic: True; ICC @ Nom Voltage(Max)(mA): 0.01; Bits(#): 2; F @ Nom Voltage(Max)(Mhz): 150; Channels(#): 1; Rating: Catalog; Technology Family: LVC; Voltage(Nom)(V): 1.8,2.5,3.3,5; Schmitt Trigger: No; Output Drive (IOL/IOH)(Max)(mA): 32/-32; Mux Configuration: 1：2; tpd @ Nom Voltage(Max)(ns): 2,1.2,0.8,0.6; DatasheetVersion: SCES324N; PackageReference: DCU0008A; Supplier 1: Mouser; Supplier Part Number 1: 595-SN74LVC2G53DCUR; Supplier 2: Digi-Key; Supplier Part Number 2: 296-13270-2-ND; Supplier 3: Digi-Key; Supplier Part Number 3: 296-13270-1-ND; Supplier 4: Digi-Key; Supplier Part Number 4: 296-13270-6-ND; Input Type: CMOS; Operating Temperature Range(C): -40 to 85; Sub-Family: Analog Switch; 3-State Output: No; Switch Configuration: SPDT; ComponentLink1Description: Manufacturer URL; ComponentLink1URL: http://www.ti.com/; ComponentLink2Description: Datasheet; ComponentLink2URL: http://www.ti.com/lit/ds/symlink/sn74lvc2g53.pdf
footprint DCU0008A_N (SOP, 8-Leads, Body 2.4x2.1mm, Pitch 0.5mm, IPC Medium Density)
footprint DCU0008A_M (SOP, 8-Leads, Body 2.4x2.1mm, Pitch 0.5mm, IPC Low Density)
footprint DCU0008A_L (SOP, 8-Leads, Body 2.4x2.1mm, Pitch 0.5mm, IPC High Density)
pins: 1 COM, 2 INH (in), 3 GND (power), 4 GND (power), 5 A (in), 6 Y2, 7 Y1, 8 VCC (power)

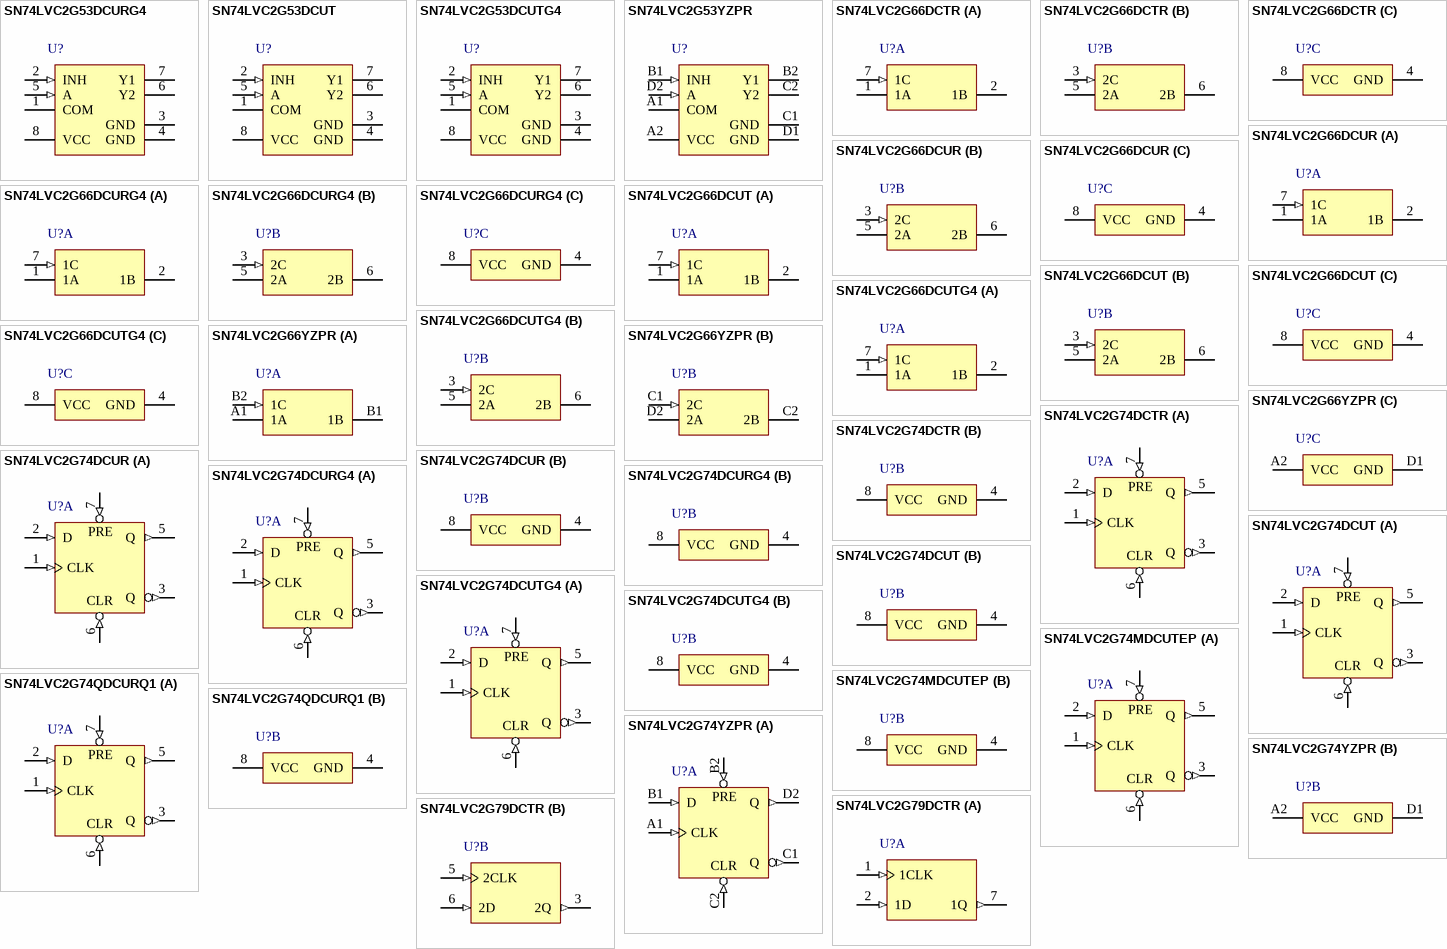
[diagram p53: symbols SN74LVC2G53DCURG4 to SN74LVC2G79DCTR]

## SN74LVC2G53DCURG4
designator U?
Single Pole, Double-Throw (SPDT) Analog Switch or 2:1 Analog Multiplexer/Demultiplexer, DCU0008A, LARGE T&R; Generic Part Number: SN74LVC2G53; Manufacturer: Texas Instruments; PartNumber: SN74LVC2G53DCURG4; VCC(Min)(V): 1.65; VCC(Max)(V): 5.5; Output Type: CMOS; Logic: True; ICC @ Nom Voltage(Max)(mA): 0.01; Bits(#): 2; F @ Nom Voltage(Max)(Mhz): 150; Channels(#): 1; Rating: Catalog; Technology Family: LVC; Voltage(Nom)(V): 1.8,2.5,3.3,5; Schmitt Trigger: No; Output Drive (IOL/IOH)(Max)(mA): 32/-32; Mux Configuration: 1：2; tpd @ Nom Voltage(Max)(ns): 2,1.2,0.8,0.6; DatasheetVersion: SCES324N; PackageReference: DCU0008A; Supplier 1: Mouser; Supplier Part Number 1: 595-74LVC2G53DCURG4; Supplier 2: Digi-Key; Supplier Part Number 2: SN74LVC2G53DCURG4-ND; Input Type: CMOS; Operating Temperature Range(C): -40 to 85; Sub-Family: Analog Switch; 3-State Output: No; Switch Configuration: SPDT; ComponentLink1Description: Manufacturer URL; ComponentLink1URL: http://www.ti.com/; ComponentLink2Description: Datasheet; ComponentLink2URL: http://www.ti.com/lit/ds/symlink/sn74lvc2g53.pdf
footprint DCU0008A_N (SOP, 8-Leads, Body 2.4x2.1mm, Pitch 0.5mm, IPC Medium Density)
footprint DCU0008A_M (SOP, 8-Leads, Body 2.4x2.1mm, Pitch 0.5mm, IPC Low Density)
footprint DCU0008A_L (SOP, 8-Leads, Body 2.4x2.1mm, Pitch 0.5mm, IPC High Density)
pins: 1 COM, 2 INH (in), 3 GND (power), 4 GND (power), 5 A (in), 6 Y2, 7 Y1, 8 VCC (power)

## SN74LVC2G53DCUT
designator U?
Single Pole, Double-Throw (SPDT) Analog Switch or 2:1 Analog Multiplexer/Demultiplexer, DCU0008A, SMALL T&R; Generic Part Number: SN74LVC2G53; Manufacturer: Texas Instruments; PartNumber: SN74LVC2G53DCUT; VCC(Min)(V): 1.65; VCC(Max)(V): 5.5; Output Type: CMOS; Logic: True; ICC @ Nom Voltage(Max)(mA): 0.01; Bits(#): 2; F @ Nom Voltage(Max)(Mhz): 150; Channels(#): 1; Rating: Catalog; Technology Family: LVC; Voltage(Nom)(V): 1.8,2.5,3.3,5; Schmitt Trigger: No; Output Drive (IOL/IOH)(Max)(mA): 32/-32; Mux Configuration: 1：2; tpd @ Nom Voltage(Max)(ns): 2,1.2,0.8,0.6; DatasheetVersion: SCES324N; PackageReference: DCU0008A; Supplier 1: Mouser; Supplier Part Number 1: 595-SN74LVC2G53DCUT; Supplier 2: Digi-Key; Supplier Part Number 2: 296-32326-2-ND; Supplier 3: Digi-Key; Supplier Part Number 3: 296-32326-1-ND; Supplier 4: Digi-Key; Supplier Part Number 4: 296-32326-6-ND; Input Type: CMOS; Operating Temperature Range(C): -40 to 85; Sub-Family: Analog Switch; 3-State Output: No; Switch Configuration: SPDT; ComponentLink1Description: Manufacturer URL; ComponentLink1URL: http://www.ti.com/; ComponentLink2Description: Datasheet; ComponentLink2URL: http://www.ti.com/lit/ds/symlink/sn74lvc2g53.pdf
footprint DCU0008A_N (SOP, 8-Leads, Body 2.4x2.1mm, Pitch 0.5mm, IPC Medium Density)
footprint DCU0008A_M (SOP, 8-Leads, Body 2.4x2.1mm, Pitch 0.5mm, IPC Low Density)
footprint DCU0008A_L (SOP, 8-Leads, Body 2.4x2.1mm, Pitch 0.5mm, IPC High Density)
pins: 1 COM, 2 INH (in), 3 GND (power), 4 GND (power), 5 A (in), 6 Y2, 7 Y1, 8 VCC (power)

## SN74LVC2G53DCUTG4
designator U?
Single Pole, Double-Throw (SPDT) Analog Switch or 2:1 Analog Multiplexer/Demultiplexer, DCU0008A, SMALL T&R; Generic Part Number: SN74LVC2G53; Manufacturer: Texas Instruments; PartNumber: SN74LVC2G53DCUTG4; VCC(Min)(V): 1.65; VCC(Max)(V): 5.5; Output Type: CMOS; Logic: True; ICC @ Nom Voltage(Max)(mA): 0.01; Bits(#): 2; F @ Nom Voltage(Max)(Mhz): 150; Channels(#): 1; Rating: Catalog; Technology Family: LVC; Voltage(Nom)(V): 1.8,2.5,3.3,5; Schmitt Trigger: No; Output Drive (IOL/IOH)(Max)(mA): 32/-32; Mux Configuration: 1：2; tpd @ Nom Voltage(Max)(ns): 2,1.2,0.8,0.6; DatasheetVersion: SCES324N; PackageReference: DCU0008A; Supplier 1: Mouser; Supplier Part Number 1: 595-N74LVC2G53DCUTG4; Supplier 2: Digi-Key; Supplier Part Number 2: SN74LVC2G53DCUTG4-ND; Input Type: CMOS; Operating Temperature Range(C): -40 to 85; Sub-Family: Analog Switch; 3-State Output: No; Switch Configuration: SPDT; ComponentLink1Description: Manufacturer URL; ComponentLink1URL: http://www.ti.com/; ComponentLink2Description: Datasheet; ComponentLink2URL: http://www.ti.com/lit/ds/symlink/sn74lvc2g53.pdf
footprint DCU0008A_N (SOP, 8-Leads, Body 2.4x2.1mm, Pitch 0.5mm, IPC Medium Density)
footprint DCU0008A_M (SOP, 8-Leads, Body 2.4x2.1mm, Pitch 0.5mm, IPC Low Density)
footprint DCU0008A_L (SOP, 8-Leads, Body 2.4x2.1mm, Pitch 0.5mm, IPC High Density)
pins: 1 COM, 2 INH (in), 3 GND (power), 4 GND (power), 5 A (in), 6 Y2, 7 Y1, 8 VCC (power)

## SN74LVC2G53YZPR
designator U?
Single Pole, Double-Throw (SPDT) Analog Switch or 2:1 Analog Multiplexer/Demultiplexer, YZP0008ADAD, LARGE T&R; Generic Part Number: SN74LVC2G53; Manufacturer: Texas Instruments; PartNumber: SN74LVC2G53YZPR; VCC(Min)(V): 1.65; VCC(Max)(V): 5.5; Output Type: CMOS; Logic: True; ICC @ Nom Voltage(Max)(mA): 0.01; Bits(#): 2; F @ Nom Voltage(Max)(Mhz): 150; Channels(#): 1; Rating: Catalog; Technology Family: LVC; Voltage(Nom)(V): 1.8,2.5,3.3,5; Schmitt Trigger: No; Output Drive (IOL/IOH)(Max)(mA): 32/-32; Mux Configuration: 1：2; tpd @ Nom Voltage(Max)(ns): 2,1.2,0.8,0.6; DatasheetVersion: SCES324N; PackageReference: YZP0008ADAD; Supplier 1: Mouser; Supplier Part Number 1: 595-SN74LVC2G53YZPR; Supplier 2: Digi-Key; Supplier Part Number 2: 296-14372-2-ND; Supplier 3: Digi-Key; Supplier Part Number 3: 296-14372-1-ND; Supplier 4: Digi-Key; Supplier Part Number 4: 296-14372-6-ND; Input Type: CMOS; Operating Temperature Range(C): -40 to 85; Sub-Family: Analog Switch; 3-State Output: No; Switch Configuration: SPDT; ComponentLink1Description: Manufacturer URL; ComponentLink1URL: http://www.ti.com/; ComponentLink2Description: Datasheet; ComponentLink2URL: http://www.ti.com/lit/ds/symlink/sn74lvc2g53.pdf
footprint YZP0008ADAD (BGA, 8-Balls, Body 1.89x0.89mm, Pitch 0.5mm)
pins: A1 COM, A2 VCC (power), B1 INH (in), B2 Y1, C1 GND (power), C2 Y2, D1 GND (power), D2 A (in)

## SN74LVC2G66DCTR
designator U?
Dual Analog Switch, DCT0008A, LARGE T&R; Generic Part Number: SN74LVC2G66; Manufacturer: Texas Instruments; PartNumber: SN74LVC2G66DCTR; VCC(Min)(V): 1.65; VCC(Max)(V): 5.5; Output Type: CMOS; Logic: True; ICC @ Nom Voltage(Max)(mA): 0.01; Bits(#): 2; F @ Nom Voltage(Max)(Mhz): 150; Rating: Catalog; Technology Family: LVC; Voltage(Nom)(V): 1.8,2.5,3.3,5; Schmitt Trigger: No; Output Drive (IOL/IOH)(Max)(mA): 32/-32; Switch Configuration: SPST; tpd @ Nom Voltage(Max)(ns): 2,1.2,0.8,0.6; DatasheetVersion: SCES325K; PackageReference: DCT0008A; Supplier 1: Mouser; Supplier Part Number 1: 595-SN74LVC2G66DCTR; Supplier 2: Digi-Key; Supplier Part Number 2: 296-13271-2-ND; Supplier 3: Digi-Key; Supplier Part Number 3: 296-13271-1-ND; Supplier 4: Digi-Key; Supplier Part Number 4: 296-13271-6-ND; Input Type: CMOS; Operating Temperature Range(C): -40 to 85; Channels(#): 2; Sub-Family: Analog Switch; 3-State Output: No; ComponentLink1Description: Manufacturer URL; ComponentLink1URL: http://www.ti.com/; ComponentLink2Description: Datasheet; ComponentLink2URL: http://www.ti.com/lit/ds/symlink/sn74lvc2g66.pdf
footprint DCT0008A_N (SOP, 8-Leads, Body 2.9x3.2mm, Pitch 0.65mm, IPC Medium Density)
footprint DCT0008A_M (SOP, 8-Leads, Body 2.9x3.2mm, Pitch 0.65mm, IPC Low Density)
footprint DCT0008A_L (SOP, 8-Leads, Body 2.9x3.2mm, Pitch 0.65mm, IPC High Density)
part A pins: 1 1A, 2 1B, 7 1C (in)
part B pins: 3 2C (in), 5 2A, 6 2B
part C pins: 4 GND (power), 8 VCC (power)

## SN74LVC2G66DCUR
designator U?
Dual Analog Switch, DCU0008A, LARGE T&R; Generic Part Number: SN74LVC2G66; Manufacturer: Texas Instruments; PartNumber: SN74LVC2G66DCUR; VCC(Min)(V): 1.65; VCC(Max)(V): 5.5; Output Type: CMOS; Logic: True; ICC @ Nom Voltage(Max)(mA): 0.01; Bits(#): 2; F @ Nom Voltage(Max)(Mhz): 150; Rating: Catalog; Technology Family: LVC; Voltage(Nom)(V): 1.8,2.5,3.3,5; Schmitt Trigger: No; Output Drive (IOL/IOH)(Max)(mA): 32/-32; Switch Configuration: SPST; tpd @ Nom Voltage(Max)(ns): 2,1.2,0.8,0.6; DatasheetVersion: SCES325K; PackageReference: DCU0008A; Supplier 1: Mouser; Supplier Part Number 1: 595-SN74LVC2G66DCUR; Supplier 2: Digi-Key; Supplier Part Number 2: 296-13272-2-ND; Supplier 3: Digi-Key; Supplier Part Number 3: 296-13272-1-ND; Supplier 4: Digi-Key; Supplier Part Number 4: 296-13272-6-ND; Input Type: CMOS; Operating Temperature Range(C): -40 to 85; Channels(#): 2; Sub-Family: Analog Switch; 3-State Output: No; ComponentLink1Description: Manufacturer URL; ComponentLink1URL: http://www.ti.com/; ComponentLink2Description: Datasheet; ComponentLink2URL: http://www.ti.com/lit/ds/symlink/sn74lvc2g66.pdf
footprint DCU0008A_N (SOP, 8-Leads, Body 2.4x2.1mm, Pitch 0.5mm, IPC Medium Density)
footprint DCU0008A_M (SOP, 8-Leads, Body 2.4x2.1mm, Pitch 0.5mm, IPC Low Density)
footprint DCU0008A_L (SOP, 8-Leads, Body 2.4x2.1mm, Pitch 0.5mm, IPC High Density)
part A pins: 1 1A, 2 1B, 7 1C (in)
part B pins: 3 2C (in), 5 2A, 6 2B
part C pins: 4 GND (power), 8 VCC (power)

## SN74LVC2G66DCURG4
designator U?
Dual Analog Switch, DCU0008A, LARGE T&R; Generic Part Number: SN74LVC2G66; Manufacturer: Texas Instruments; PartNumber: SN74LVC2G66DCURG4; VCC(Min)(V): 1.65; VCC(Max)(V): 5.5; Output Type: CMOS; Logic: True; ICC @ Nom Voltage(Max)(mA): 0.01; Bits(#): 2; F @ Nom Voltage(Max)(Mhz): 150; Rating: Catalog; Technology Family: LVC; Voltage(Nom)(V): 1.8,2.5,3.3,5; Schmitt Trigger: No; Output Drive (IOL/IOH)(Max)(mA): 32/-32; Switch Configuration: SPST; tpd @ Nom Voltage(Max)(ns): 2,1.2,0.8,0.6; DatasheetVersion: SCES325K; PackageReference: DCU0008A; Supplier 1: Mouser; Supplier Part Number 1: 595-74LVC2G66DCURG4; Supplier 2: Digi-Key; Supplier Part Number 2: SN74LVC2G66DCURG4-ND; Input Type: CMOS; Operating Temperature Range(C): -40 to 85; Channels(#): 2; Sub-Family: Analog Switch; 3-State Output: No; ComponentLink1Description: Manufacturer URL; ComponentLink1URL: http://www.ti.com/; ComponentLink2Description: Datasheet; ComponentLink2URL: http://www.ti.com/lit/ds/symlink/sn74lvc2g66.pdf
footprint DCU0008A_N (SOP, 8-Leads, Body 2.4x2.1mm, Pitch 0.5mm, IPC Medium Density)
footprint DCU0008A_M (SOP, 8-Leads, Body 2.4x2.1mm, Pitch 0.5mm, IPC Low Density)
footprint DCU0008A_L (SOP, 8-Leads, Body 2.4x2.1mm, Pitch 0.5mm, IPC High Density)
part A pins: 1 1A, 2 1B, 7 1C (in)
part B pins: 3 2C (in), 5 2A, 6 2B
part C pins: 4 GND (power), 8 VCC (power)

## SN74LVC2G66DCUT
designator U?
Dual Analog Switch, DCU0008A, SMALL T&R; Generic Part Number: SN74LVC2G66; Manufacturer: Texas Instruments; PartNumber: SN74LVC2G66DCUT; VCC(Min)(V): 1.65; VCC(Max)(V): 5.5; Output Type: CMOS; Logic: True; ICC @ Nom Voltage(Max)(mA): 0.01; Bits(#): 2; F @ Nom Voltage(Max)(Mhz): 150; Rating: Catalog; Technology Family: LVC; Voltage(Nom)(V): 1.8,2.5,3.3,5; Schmitt Trigger: No; Output Drive (IOL/IOH)(Max)(mA): 32/-32; Switch Configuration: SPST; tpd @ Nom Voltage(Max)(ns): 2,1.2,0.8,0.6; DatasheetVersion: SCES325K; PackageReference: DCU0008A; Supplier 1: Mouser; Supplier Part Number 1: 595-SN74LVC2G66DCUT; Supplier 2: Digi-Key; Supplier Part Number 2: SN74LVC2G66DCUT-ND; Input Type: CMOS; Operating Temperature Range(C): -40 to 85; Channels(#): 2; Sub-Family: Analog Switch; 3-State Output: No; ComponentLink1Description: Manufacturer URL; ComponentLink1URL: http://www.ti.com/; ComponentLink2Description: Datasheet; ComponentLink2URL: http://www.ti.com/lit/ds/symlink/sn74lvc2g66.pdf
footprint DCU0008A_N (SOP, 8-Leads, Body 2.4x2.1mm, Pitch 0.5mm, IPC Medium Density)
footprint DCU0008A_M (SOP, 8-Leads, Body 2.4x2.1mm, Pitch 0.5mm, IPC Low Density)
footprint DCU0008A_L (SOP, 8-Leads, Body 2.4x2.1mm, Pitch 0.5mm, IPC High Density)
part A pins: 1 1A, 2 1B, 7 1C (in)
part B pins: 3 2C (in), 5 2A, 6 2B
part C pins: 4 GND (power), 8 VCC (power)

## SN74LVC2G66DCUTG4
designator U?
Dual Analog Switch, DCU0008A, SMALL T&R; Generic Part Number: SN74LVC2G66; Manufacturer: Texas Instruments; PartNumber: SN74LVC2G66DCUTG4; VCC(Min)(V): 1.65; VCC(Max)(V): 5.5; Output Type: CMOS; Logic: True; ICC @ Nom Voltage(Max)(mA): 0.01; Bits(#): 2; F @ Nom Voltage(Max)(Mhz): 150; Rating: Catalog; Technology Family: LVC; Voltage(Nom)(V): 1.8,2.5,3.3,5; Schmitt Trigger: No; Output Drive (IOL/IOH)(Max)(mA): 32/-32; Switch Configuration: SPST; tpd @ Nom Voltage(Max)(ns): 2,1.2,0.8,0.6; DatasheetVersion: SCES325K; PackageReference: DCU0008A; Supplier 1: Mouser; Supplier Part Number 1: 595-74LVC2G66DCUTG4; Supplier 2: Digi-Key; Supplier Part Number 2: SN74LVC2G66DCUTG4-ND; Input Type: CMOS; Operating Temperature Range(C): -40 to 85; Channels(#): 2; Sub-Family: Analog Switch; 3-State Output: No; ComponentLink1Description: Manufacturer URL; ComponentLink1URL: http://www.ti.com/; ComponentLink2Description: Datasheet; ComponentLink2URL: http://www.ti.com/lit/ds/symlink/sn74lvc2g66.pdf
footprint DCU0008A_N (SOP, 8-Leads, Body 2.4x2.1mm, Pitch 0.5mm, IPC Medium Density)
footprint DCU0008A_M (SOP, 8-Leads, Body 2.4x2.1mm, Pitch 0.5mm, IPC Low Density)
footprint DCU0008A_L (SOP, 8-Leads, Body 2.4x2.1mm, Pitch 0.5mm, IPC High Density)
part A pins: 1 1A, 2 1B, 7 1C (in)
part B pins: 3 2C (in), 5 2A, 6 2B
part C pins: 4 GND (power), 8 VCC (power)

## SN74LVC2G66YZPR
designator U?
Dual Analog Switch, YZP0008ADAD, LARGE T&R; Generic Part Number: SN74LVC2G66; Manufacturer: Texas Instruments; PartNumber: SN74LVC2G66YZPR; VCC(Min)(V): 1.65; VCC(Max)(V): 5.5; Output Type: CMOS; Logic: True; ICC @ Nom Voltage(Max)(mA): 0.01; Bits(#): 2; F @ Nom Voltage(Max)(Mhz): 150; Rating: Catalog; Technology Family: LVC; Voltage(Nom)(V): 1.8,2.5,3.3,5; Schmitt Trigger: No; Output Drive (IOL/IOH)(Max)(mA): 32/-32; Switch Configuration: SPST; tpd @ Nom Voltage(Max)(ns): 2,1.2,0.8,0.6; DatasheetVersion: SCES325K; PackageReference: YZP0008ADAD; Supplier 1: Mouser; Supplier Part Number 1: 595-SN74LVC2G66YZPR; Supplier 2: Digi-Key; Supplier Part Number 2: 296-14373-2-ND; Supplier 3: Digi-Key; Supplier Part Number 3: 296-14373-1-ND; Supplier 4: Digi-Key; Supplier Part Number 4: 296-14373-6-ND; Input Type: CMOS; Operating Temperature Range(C): -40 to 85; Channels(#): 2; Sub-Family: Analog Switch; 3-State Output: No; ComponentLink1Description: Manufacturer URL; ComponentLink1URL: http://www.ti.com/; ComponentLink2Description: Datasheet; ComponentLink2URL: http://www.ti.com/lit/ds/symlink/sn74lvc2g66.pdf
footprint YZP0008ADAD (BGA, 8-Balls, Body 1.89x0.89mm, Pitch 0.5mm)
part A pins: A1 1A, B1 1B, B2 1C (in)
part B pins: C1 2C (in), C2 2B, D2 2A
part C pins: A2 VCC (power), D1 GND (power)

## SN74LVC2G74DCTR
designator U?
Single Positive-Edge-Triggered D-Type Flip-Flop with Clear and Preset, DCT0008A, LARGE T&R; Generic Part Number: SN74LVC2G74; Manufacturer: Texas Instruments; PartNumber: SN74LVC2G74DCTR; VCC(Min)(V): 1.65; VCC(Max)(V): 5.5; Output Type: CMOS; ICC @ Nom Voltage(Max)(mA): 0.01; Input Type: CMOS/TTL; Bits(#): 1; F @ Nom Voltage(Max)(Mhz): 150; Rating: Catalog; Technology Family: LVC; Voltage(Nom)(V): 1.8,2.5,3.3,5; Schmitt Trigger: No; Output Drive (IOL/IOH)(Max)(mA): 32/-32; tpd @ Nom Voltage(Max)(ns): 13.4,7.1,5.9,4.1; Logic: True; DatasheetVersion: SCES203O; PackageReference: DCT0008A; Supplier 1: Mouser; Supplier Part Number 1: 595-SN74LVC2G74DCTR; Supplier 2: Digi-Key; Supplier Part Number 2: 296-13273-2-ND; Supplier 3: Digi-Key; Supplier Part Number 3: 296-13273-1-ND; Supplier 4: Digi-Key; Supplier Part Number 4: 296-13273-6-ND; Operating Temperature Range(C): -40 to 125,-40 to 85; 3-State Output: No; Sub-Family: D-Type Flip-Flop; ComponentLink1Description: Manufacturer URL; ComponentLink1URL: http://www.ti.com/; ComponentLink2Description: Datasheet; ComponentLink2URL: http://www.ti.com/lit/ds/symlink/sn74lvc2g74.pdf
footprint DCT0008A_N (SOP, 8-Leads, Body 2.9x3.2mm, Pitch 0.65mm, IPC Medium Density)
footprint DCT0008A_M (SOP, 8-Leads, Body 2.9x3.2mm, Pitch 0.65mm, IPC Low Density)
footprint DCT0008A_L (SOP, 8-Leads, Body 2.9x3.2mm, Pitch 0.65mm, IPC High Density)
part A pins: 1 CLK (in) "Clock input", 2 D (in) "Input", 3 Q (out) "Inverted output", 5 Q (out) "Output", 6 ~{CLR} (in) "Clear input - Pull low to set Q output low", 7 ~{PRE} (in) "Preset input - Pull low to set Q output high"
part B pins: 4 GND (power) "Ground", 8 VCC (power) "Supply"
part A text: PRE; CLR

## SN74LVC2G74DCUR
designator U?
Single Positive-Edge-Triggered D-Type Flip-Flop with Clear and Preset, DCU0008A, LARGE T&R; Generic Part Number: SN74LVC2G74; Manufacturer: Texas Instruments; PartNumber: SN74LVC2G74DCUR; VCC(Min)(V): 1.65; VCC(Max)(V): 5.5; Output Type: CMOS; ICC @ Nom Voltage(Max)(mA): 0.01; Input Type: CMOS/TTL; Bits(#): 1; F @ Nom Voltage(Max)(Mhz): 150; Rating: Catalog; Technology Family: LVC; Voltage(Nom)(V): 1.8,2.5,3.3,5; Schmitt Trigger: No; Output Drive (IOL/IOH)(Max)(mA): 32/-32; tpd @ Nom Voltage(Max)(ns): 13.4,7.1,5.9,4.1; Logic: True; DatasheetVersion: SCES203O; PackageReference: DCU0008A; Supplier 1: Mouser; Supplier Part Number 1: 595-SN74LVC2G74DCUR; Supplier 2: Digi-Key; Supplier Part Number 2: 296-12755-2-ND; Supplier 3: Digi-Key; Supplier Part Number 3: 296-12755-1-ND; Supplier 4: Digi-Key; Supplier Part Number 4: 296-12755-6-ND; Operating Temperature Range(C): -40 to 125,-40 to 85; 3-State Output: No; Sub-Family: D-Type Flip-Flop; ComponentLink1Description: Manufacturer URL; ComponentLink1URL: http://www.ti.com/; ComponentLink2Description: Datasheet; ComponentLink2URL: http://www.ti.com/lit/ds/symlink/sn74lvc2g74.pdf
footprint DCU0008A_N (SOP, 8-Leads, Body 2.4x2.1mm, Pitch 0.5mm, IPC Medium Density)
footprint DCU0008A_M (SOP, 8-Leads, Body 2.4x2.1mm, Pitch 0.5mm, IPC Low Density)
footprint DCU0008A_L (SOP, 8-Leads, Body 2.4x2.1mm, Pitch 0.5mm, IPC High Density)
part A pins: 1 CLK (in) "Clock input", 2 D (in) "Input", 3 Q (out) "Inverted output", 5 Q (out) "Output", 6 ~{CLR} (in) "Clear input - Pull low to set Q output low", 7 ~{PRE} (in) "Preset input - Pull low to set Q output high"
part B pins: 4 GND (power) "Ground", 8 VCC (power) "Supply"
part A text: PRE; CLR

## SN74LVC2G74DCURG4
designator U?
Single Positive-Edge-Triggered D-Type Flip-Flop with Clear and Preset, DCU0008A, LARGE T&R; Generic Part Number: SN74LVC2G74; Manufacturer: Texas Instruments; PartNumber: SN74LVC2G74DCURG4; VCC(Min)(V): 1.65; VCC(Max)(V): 5.5; Output Type: CMOS; ICC @ Nom Voltage(Max)(mA): 0.01; Input Type: CMOS/TTL; Bits(#): 1; F @ Nom Voltage(Max)(Mhz): 150; Rating: Catalog; Technology Family: LVC; Voltage(Nom)(V): 1.8,2.5,3.3,5; Schmitt Trigger: No; Output Drive (IOL/IOH)(Max)(mA): 32/-32; tpd @ Nom Voltage(Max)(ns): 13.4,7.1,5.9,4.1; Logic: True; DatasheetVersion: SCES203O; PackageReference: DCU0008A; Supplier 1: Mouser; Supplier Part Number 1: 595-SN74LVC2G74DCUG4; Supplier 2: Digi-Key; Supplier Part Number 2: 296-32327-2-ND; Supplier 3: Digi-Key; Supplier Part Number 3: 296-32327-1-ND; Supplier 4: Digi-Key; Supplier Part Number 4: 296-32327-6-ND; Operating Temperature Range(C): -40 to 125,-40 to 85; 3-State Output: No; Sub-Family: D-Type Flip-Flop; ComponentLink1Description: Manufacturer URL; ComponentLink1URL: http://www.ti.com/; ComponentLink2Description: Datasheet; ComponentLink2URL: http://www.ti.com/lit/ds/symlink/sn74lvc2g74.pdf
footprint DCU0008A_N (SOP, 8-Leads, Body 2.4x2.1mm, Pitch 0.5mm, IPC Medium Density)
footprint DCU0008A_M (SOP, 8-Leads, Body 2.4x2.1mm, Pitch 0.5mm, IPC Low Density)
footprint DCU0008A_L (SOP, 8-Leads, Body 2.4x2.1mm, Pitch 0.5mm, IPC High Density)
part A pins: 1 CLK (in) "Clock input", 2 D (in) "Input", 3 Q (out) "Inverted output", 5 Q (out) "Output", 6 ~{CLR} (in) "Clear input - Pull low to set Q output low", 7 ~{PRE} (in) "Preset input - Pull low to set Q output high"
part B pins: 4 GND (power) "Ground", 8 VCC (power) "Supply"
part A text: PRE; CLR

## SN74LVC2G74DCUT
designator U?
Single Positive-Edge-Triggered D-Type Flip-Flop with Clear and Preset, DCU0008A, SMALL T&R; Generic Part Number: SN74LVC2G74; Manufacturer: Texas Instruments; PartNumber: SN74LVC2G74DCUT; VCC(Min)(V): 1.65; VCC(Max)(V): 5.5; Output Type: CMOS; ICC @ Nom Voltage(Max)(mA): 0.01; Input Type: CMOS/TTL; Bits(#): 1; F @ Nom Voltage(Max)(Mhz): 150; Rating: Catalog; Technology Family: LVC; Voltage(Nom)(V): 1.8,2.5,3.3,5; Schmitt Trigger: No; Output Drive (IOL/IOH)(Max)(mA): 32/-32; tpd @ Nom Voltage(Max)(ns): 13.4,7.1,5.9,4.1; Logic: True; DatasheetVersion: SCES203O; PackageReference: DCU0008A; Supplier 1: Mouser; Supplier Part Number 1: 595-SN74LVC2G74DCUT; Supplier 2: Digi-Key; Supplier Part Number 2: 296-26623-2-ND; Supplier 3: Digi-Key; Supplier Part Number 3: 296-26623-1-ND; Supplier 4: Digi-Key; Supplier Part Number 4: 296-26623-6-ND; Operating Temperature Range(C): -40 to 125,-40 to 85; 3-State Output: No; Sub-Family: D-Type Flip-Flop; ComponentLink1Description: Manufacturer URL; ComponentLink1URL: http://www.ti.com/; ComponentLink2Description: Datasheet; ComponentLink2URL: http://www.ti.com/lit/ds/symlink/sn74lvc2g74.pdf
footprint DCU0008A_N (SOP, 8-Leads, Body 2.4x2.1mm, Pitch 0.5mm, IPC Medium Density)
footprint DCU0008A_M (SOP, 8-Leads, Body 2.4x2.1mm, Pitch 0.5mm, IPC Low Density)
footprint DCU0008A_L (SOP, 8-Leads, Body 2.4x2.1mm, Pitch 0.5mm, IPC High Density)
part A pins: 1 CLK (in) "Clock input", 2 D (in) "Input", 3 Q (out) "Inverted output", 5 Q (out) "Output", 6 ~{CLR} (in) "Clear input - Pull low to set Q output low", 7 ~{PRE} (in) "Preset input - Pull low to set Q output high"
part B pins: 4 GND (power) "Ground", 8 VCC (power) "Supply"
part A text: PRE; CLR

## SN74LVC2G74DCUTG4
designator U?
Single Positive-Edge-Triggered D-Type Flip-Flop with Clear and Preset, DCU0008A, SMALL T&R; Generic Part Number: SN74LVC2G74; Manufacturer: Texas Instruments; PartNumber: SN74LVC2G74DCUTG4; VCC(Min)(V): 1.65; VCC(Max)(V): 5.5; Output Type: CMOS; ICC @ Nom Voltage(Max)(mA): 0.01; Input Type: CMOS/TTL; Bits(#): 1; F @ Nom Voltage(Max)(Mhz): 150; Rating: Catalog; Technology Family: LVC; Voltage(Nom)(V): 1.8,2.5,3.3,5; Schmitt Trigger: No; Output Drive (IOL/IOH)(Max)(mA): 32/-32; tpd @ Nom Voltage(Max)(ns): 13.4,7.1,5.9,4.1; Logic: True; DatasheetVersion: SCES203O; PackageReference: DCU0008A; Supplier 1: Mouser; Supplier Part Number 1: 595-74LVC2G74DCUTG4; Supplier 2: Digi-Key; Supplier Part Number 2: SN74LVC2G74DCUTG4-ND; Operating Temperature Range(C): -40 to 125,-40 to 85; 3-State Output: No; Sub-Family: D-Type Flip-Flop; ComponentLink1Description: Manufacturer URL; ComponentLink1URL: http://www.ti.com/; ComponentLink2Description: Datasheet; ComponentLink2URL: http://www.ti.com/lit/ds/symlink/sn74lvc2g74.pdf
footprint DCU0008A_N (SOP, 8-Leads, Body 2.4x2.1mm, Pitch 0.5mm, IPC Medium Density)
footprint DCU0008A_M (SOP, 8-Leads, Body 2.4x2.1mm, Pitch 0.5mm, IPC Low Density)
footprint DCU0008A_L (SOP, 8-Leads, Body 2.4x2.1mm, Pitch 0.5mm, IPC High Density)
part A pins: 1 CLK (in) "Clock input", 2 D (in) "Input", 3 Q (out) "Inverted output", 5 Q (out) "Output", 6 ~{CLR} (in) "Clear input - Pull low to set Q output low", 7 ~{PRE} (in) "Preset input - Pull low to set Q output high"
part B pins: 4 GND (power) "Ground", 8 VCC (power) "Supply"
part A text: PRE; CLR

## SN74LVC2G74MDCUTEP
designator U?
Enhanced Product Single Positive Edge Triggered D-Type Flip-Flop With Clear And Preset, DCU0008A, SMALL T&R; Generic Part Number: SN74LVC2G74-EP; Manufacturer: Texas Instruments; PartNumber: SN74LVC2G74MDCUTEP; VCC(Min)(V): 1.65; VCC(Max)(V): 5.5; Output Type: CMOS; ICC @ Nom Voltage(Max)(mA): 0.01; Input Type: CMOS/TTL; Bits(#): 1; F @ Nom Voltage(Max)(Mhz): 150; Rating: HiRel Enhanced Product; Technology Family: LVC; Voltage(Nom)(V): 1.8,2.5,3.3,5; Schmitt Trigger: No; Output Drive (IOL/IOH)(Max)(mA): 32/-32; tpd @ Nom Voltage(Max)(ns): 7.9,6.1; Logic: True; DatasheetVersion: SCES718; PackageReference: DCU0008A; Supplier 1: Mouser; Supplier Part Number 1: 595-74LVC2G74MDCUTEP; Supplier 2: Digi-Key; Supplier Part Number 2: 296-23740-2-ND; Supplier 3: Digi-Key; Supplier Part Number 3: 296-23740-1-ND; Supplier 4: Digi-Key; Supplier Part Number 4: 296-23740-6-ND; Operating Temperature Range(C): -55 to 125; 3-State Output: No; Sub-Family: D-Type Flip-Flop; ComponentLink1Description: Manufacturer URL; ComponentLink1URL: http://www.ti.com/; ComponentLink2Description: Datasheet; ComponentLink2URL: http://www.ti.com/lit/ds/symlink/sn74lvc2g74-ep.pdf
footprint DCU0008A_N (SOP, 8-Leads, Body 2.4x2.1mm, Pitch 0.5mm, IPC Medium Density)
footprint DCU0008A_M (SOP, 8-Leads, Body 2.4x2.1mm, Pitch 0.5mm, IPC Low Density)
footprint DCU0008A_L (SOP, 8-Leads, Body 2.4x2.1mm, Pitch 0.5mm, IPC High Density)
part A pins: 1 CLK (in) "Clock input", 2 D (in) "Input", 3 Q (out) "Inverted output", 5 Q (out) "Output", 6 ~{CLR} (in) "Clear input - Pull low to set Q output low", 7 ~{PRE} (in) "Preset input - Pull low to set Q output high"
part B pins: 4 GND (power) "Ground", 8 VCC (power) "Supply"
part A text: PRE; CLR